# Altium footprint library KLS1-TF-003.PcbLib: 1 footprints
Each footprint in its own frame and in the unit in brackets; x right, y up, seen from the top. Pads: shape width x height; smd on the part's side, far side on the other; paste and mask are expansions set on the pad; w line width, h text height; cw(c..) or ccw(c..) is an arc to the next point about the centre after c.
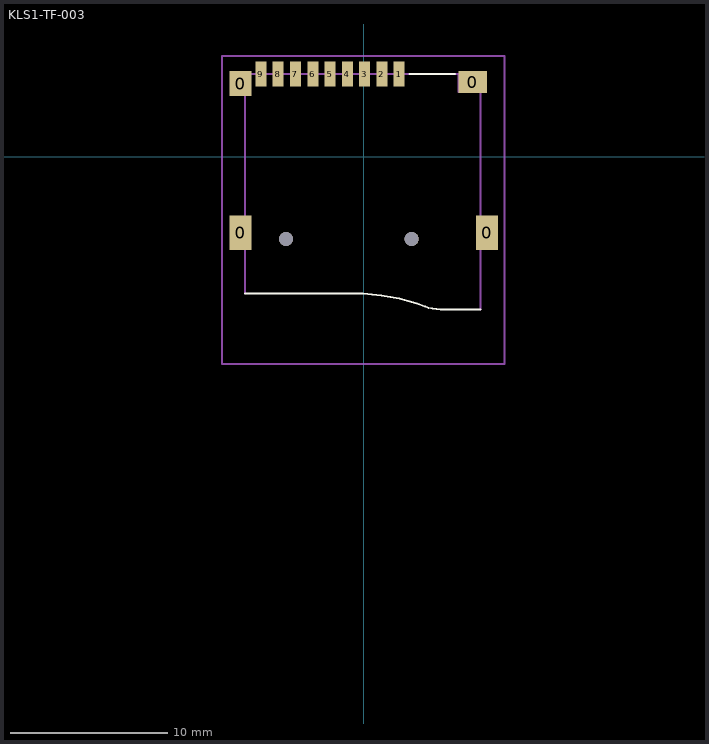
[diagram p0: the footprint, top view; thin cyan lines are the x and y axes]

## KLS1-TF-003 [mm]
pads (15):
  rect 1.4x2.2 smd: 0(-7.85,-4.85) 0(7.85,-4.85)
  rect 1.4x1.6 smd: 0(-7.85,4.65)
  rect 1.8x1.4 smd: 0(6.95,4.75)
  rect 0.7x1.6 smd: 1(2.25,5.25) 2(1.15,5.25) 3(0.05,5.25) 4(-1.05,5.25) 5(-2.15,5.25) 6(-3.25,5.25) 7(-4.35,5.25) 8(-5.45,5.25) 9(-6.55,5.25)
  round 0.9 hole 0.9 unplated: ""(-4.95,-5.25) ""(3.05,-5.25)
Top Overlay:
  lines w0.127: -7.557,-8.72 -0.623,-8.72 cw(c-0.623,-21.42) 3.928,-9.564 ; 2.9,5.25 5.8,5.25 ; 3.891,-9.549 ccw(c4.898,-6.927) 4.898,-9.736 7.429,-9.736
Mechanical 13:
  lines w0.127: -7.557,-8.72 -7.557,5.25 6.032,5.25 6.032,4.107 7.429,4.107 7.429,-9.736
Mechanical 15:
  lines w0.127: -9.02,-13.208 -9.02,6.42 8.98,6.42 8.98,-13.208 -9.02,-13.208
3D body "KLS1-TF-003.STEP": height 1.88, standoff -0.6, extent -8.05,-12.629 8.05,5.803